# Altium integrated library CAP-CSGP_rev15b.intlib: 820 symbols (part 6 of 9)
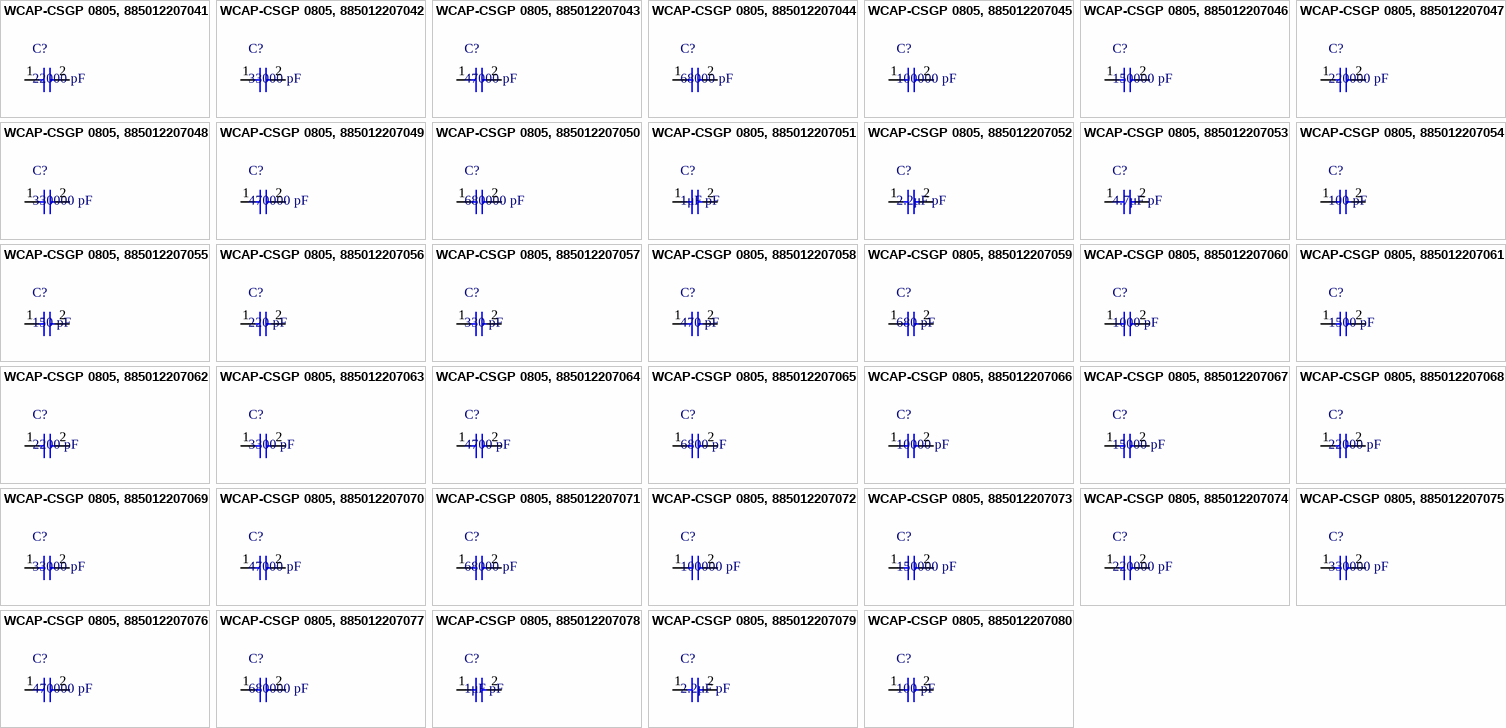
[diagram p33: symbols WCAP-CSGP 0805, 885012207041 to WCAP-CSGP 0805, 885012207080]

## WCAP-CSGP 0805, 885012207072
designator C?, comment 100000 pF
WCAP-CSGP MLCC, X7R, 0805, 100000 pF,25Vdc; Manufacturer: Wurth Elektronik; partNo: 885012207072; E-mail: libraries@we-online.com; ComponentLink1Description: Manufacturer; ComponentLink1URL: http://www.we-online.com; ComponentLink2Description: Datasheet; ComponentLink2URL: http://katalog.we-online.de/pbs/datasheet/885012207072.pdf; Created by: Karrer Zheng; Created Date: 3/9/2015; Capacitance: 100000 pF
footprint WCAP-CSGP 0805, H=0.8mm
pins: 1, 2

## WCAP-CSGP 0805, 885012207073
designator C?, comment 150000 pF
WCAP-CSGP MLCC, X7R, 0805, 150000 pF,25Vdc; Manufacturer: Wurth Elektronik; partNo: 885012207073; E-mail: libraries@we-online.com; ComponentLink1Description: Manufacturer; ComponentLink1URL: http://www.we-online.com; ComponentLink2Description: Datasheet; ComponentLink2URL: http://katalog.we-online.de/pbs/datasheet/885012207073.pdf; Created by: Karrer Zheng; Created Date: 3/9/2015; Capacitance: 150000 pF
footprint WCAP-CSGP 0805, H=1.25mm
pins: 1, 2

## WCAP-CSGP 0805, 885012207074
designator C?, comment 220000 pF
WCAP-CSGP MLCC, X7R, 0805, 220000 pF,25Vdc; Manufacturer: Wurth Elektronik; partNo: 885012207074; E-mail: libraries@we-online.com; ComponentLink1Description: Manufacturer; ComponentLink1URL: http://www.we-online.com; ComponentLink2Description: Datasheet; ComponentLink2URL: http://katalog.we-online.de/pbs/datasheet/885012207074.pdf; Created by: Karrer Zheng; Created Date: 3/9/2015; Capacitance: 220000 pF
footprint WCAP-CSGP 0805, H=1.25mm
pins: 1, 2

## WCAP-CSGP 0805, 885012207075
designator C?, comment 330000 pF
WCAP-CSGP MLCC, X7R, 0805, 330000 pF,25Vdc; Manufacturer: Wurth Elektronik; partNo: 885012207075; E-mail: libraries@we-online.com; ComponentLink1Description: Manufacturer; ComponentLink1URL: http://www.we-online.com; ComponentLink2Description: Datasheet; ComponentLink2URL: http://katalog.we-online.de/pbs/datasheet/885012207075.pdf; Created by: Karrer Zheng; Created Date: 3/9/2015; Capacitance: 330000 pF
footprint WCAP-CSGP 0805, H=1.25mm
pins: 1, 2

## WCAP-CSGP 0805, 885012207076
designator C?, comment 470000 pF
WCAP-CSGP MLCC, X7R, 0805, 470000 pF,25Vdc; Manufacturer: Wurth Elektronik; partNo: 885012207076; E-mail: libraries@we-online.com; ComponentLink1Description: Manufacturer; ComponentLink1URL: http://www.we-online.com; ComponentLink2Description: Datasheet; ComponentLink2URL: http://katalog.we-online.de/pbs/datasheet/885012207076.pdf; Created by: Karrer Zheng; Created Date: 3/9/2015; Capacitance: 470000 pF
footprint WCAP-CSGP 0805, H=1.25mm
pins: 1, 2

## WCAP-CSGP 0805, 885012207077
designator C?, comment 680000 pF
WCAP-CSGP MLCC, X7R, 0805, 680000 pF,25Vdc; Manufacturer: Wurth Elektronik; partNo: 885012207077; E-mail: libraries@we-online.com; ComponentLink1Description: Manufacturer; ComponentLink1URL: http://www.we-online.com; ComponentLink2Description: Datasheet; ComponentLink2URL: http://katalog.we-online.de/pbs/datasheet/885012207077.pdf; Created by: Karrer Zheng; Created Date: 3/9/2015; Capacitance: 680000 pF
footprint WCAP-CSGP 0805, H=1.25mm
pins: 1, 2

## WCAP-CSGP 0805, 885012207078
designator C?, comment 1μF pF
WCAP-CSGP MLCC, X7R, 0805, 1μF pF,25Vdc; Manufacturer: Wurth Elektronik; partNo: 885012207078; E-mail: libraries@we-online.com; ComponentLink1Description: Manufacturer; ComponentLink1URL: http://www.we-online.com; ComponentLink2Description: Datasheet; ComponentLink2URL: http://katalog.we-online.de/pbs/datasheet/885012207078.pdf; Created by: Karrer Zheng; Created Date: 3/9/2015; Capacitance: 1μF pF
footprint WCAP-CSGP 0805, H=1.25mm
pins: 1, 2

## WCAP-CSGP 0805, 885012207079
designator C?, comment 2.2μF pF
WCAP-CSGP MLCC, X7R, 0805, 2.2μF pF,25Vdc; Manufacturer: Wurth Elektronik; partNo: 885012207079; E-mail: libraries@we-online.com; ComponentLink1Description: Manufacturer; ComponentLink1URL: http://www.we-online.com; ComponentLink2Description: Datasheet; ComponentLink2URL: http://katalog.we-online.de/pbs/datasheet/885012207079.pdf; Created by: Karrer Zheng; Created Date: 3/9/2015; Capacitance: 2.2μF pF
footprint WCAP-CSGP 0805, H=1.25mm
pins: 1, 2

## WCAP-CSGP 0805, 885012207080
designator C?, comment 100 pF
WCAP-CSGP MLCC, X7R, 0805, 100 pF,50Vdc; Manufacturer: Wurth Elektronik; partNo: 885012207080; E-mail: libraries@we-online.com; ComponentLink1Description: Manufacturer; ComponentLink1URL: http://www.we-online.com; ComponentLink2Description: Datasheet; ComponentLink2URL: http://katalog.we-online.de/pbs/datasheet/885012207080.pdf; Created by: Karrer Zheng; Created Date: 3/9/2015; Capacitance: 100 pF
footprint WCAP-CSGP 0805, H=0.8mm
pins: 1, 2

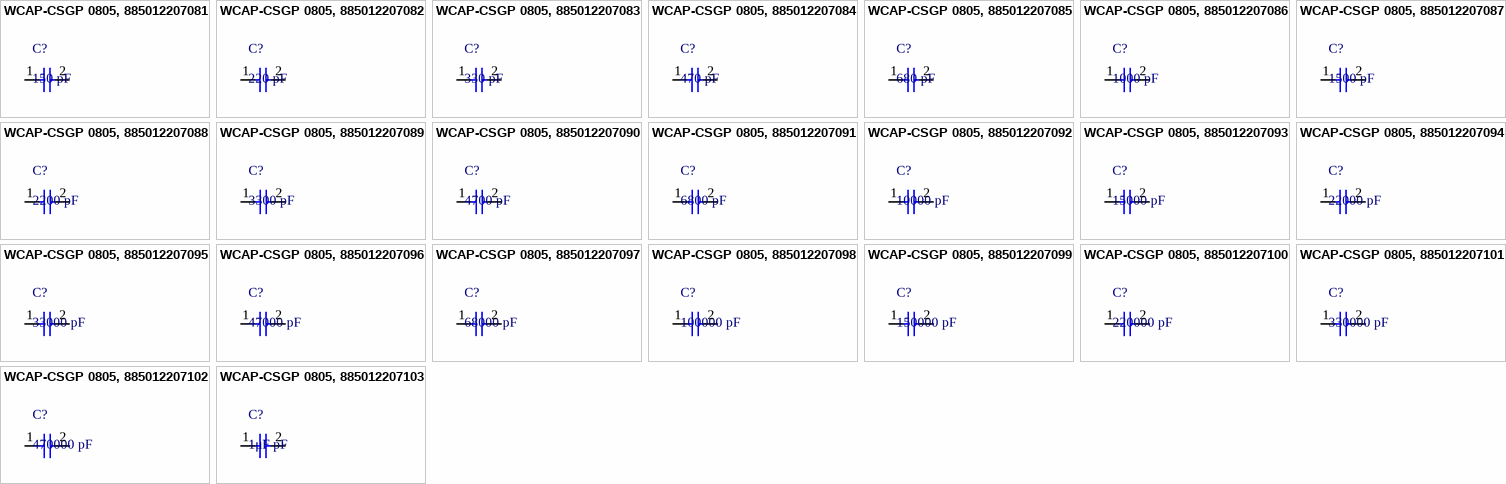
[diagram p16: symbols WCAP-CSGP 0805, 885012207081 to WCAP-CSGP 0805, 885012207103]

## WCAP-CSGP 0805, 885012207081
designator C?, comment 150 pF
WCAP-CSGP MLCC, X7R, 0805, 150 pF,50Vdc; Manufacturer: Wurth Elektronik; partNo: 885012207081; E-mail: libraries@we-online.com; ComponentLink1Description: Manufacturer; ComponentLink1URL: http://www.we-online.com; ComponentLink2Description: Datasheet; ComponentLink2URL: http://katalog.we-online.de/pbs/datasheet/885012207081.pdf; Created by: Karrer Zheng; Created Date: 3/9/2015; Capacitance: 150 pF
footprint WCAP-CSGP 0805, H=0.8mm
pins: 1, 2

## WCAP-CSGP 0805, 885012207082
designator C?, comment 220 pF
WCAP-CSGP MLCC, X7R, 0805, 220 pF,50Vdc; Manufacturer: Wurth Elektronik; partNo: 885012207082; E-mail: libraries@we-online.com; ComponentLink1Description: Manufacturer; ComponentLink1URL: http://www.we-online.com; ComponentLink2Description: Datasheet; ComponentLink2URL: http://katalog.we-online.de/pbs/datasheet/885012207082.pdf; Created by: Karrer Zheng; Created Date: 3/9/2015; Capacitance: 220 pF
footprint WCAP-CSGP 0805, H=0.8mm
pins: 1, 2

## WCAP-CSGP 0805, 885012207083
designator C?, comment 330 pF
WCAP-CSGP MLCC, X7R, 0805, 330 pF,50Vdc; Manufacturer: Wurth Elektronik; partNo: 885012207083; E-mail: libraries@we-online.com; ComponentLink1Description: Manufacturer; ComponentLink1URL: http://www.we-online.com; ComponentLink2Description: Datasheet; ComponentLink2URL: http://katalog.we-online.de/pbs/datasheet/885012207083.pdf; Created by: Karrer Zheng; Created Date: 3/9/2015; Capacitance: 330 pF
footprint WCAP-CSGP 0805, H=0.8mm
pins: 1, 2

## WCAP-CSGP 0805, 885012207084
designator C?, comment 470 pF
WCAP-CSGP MLCC, X7R, 0805, 470 pF,50Vdc; Manufacturer: Wurth Elektronik; partNo: 885012207084; E-mail: libraries@we-online.com; ComponentLink1Description: Manufacturer; ComponentLink1URL: http://www.we-online.com; ComponentLink2Description: Datasheet; ComponentLink2URL: http://katalog.we-online.de/pbs/datasheet/885012207084.pdf; Created by: Karrer Zheng; Created Date: 3/9/2015; Capacitance: 470 pF
footprint WCAP-CSGP 0805, H=0.8mm
pins: 1, 2

## WCAP-CSGP 0805, 885012207085
designator C?, comment 680 pF
WCAP-CSGP MLCC, X7R, 0805, 680 pF,50Vdc; Manufacturer: Wurth Elektronik; partNo: 885012207085; E-mail: libraries@we-online.com; ComponentLink1Description: Manufacturer; ComponentLink1URL: http://www.we-online.com; ComponentLink2Description: Datasheet; ComponentLink2URL: http://katalog.we-online.de/pbs/datasheet/885012207085.pdf; Created by: Karrer Zheng; Created Date: 3/9/2015; Capacitance: 680 pF
footprint WCAP-CSGP 0805, H=0.8mm
pins: 1, 2

## WCAP-CSGP 0805, 885012207086
designator C?, comment 1000 pF
WCAP-CSGP MLCC, X7R, 0805, 1000 pF,50Vdc; Manufacturer: Wurth Elektronik; partNo: 885012207086; E-mail: libraries@we-online.com; ComponentLink1Description: Manufacturer; ComponentLink1URL: http://www.we-online.com; ComponentLink2Description: Datasheet; ComponentLink2URL: http://katalog.we-online.de/pbs/datasheet/885012207086.pdf; Created by: Karrer Zheng; Created Date: 3/9/2015; Capacitance: 1000 pF
footprint WCAP-CSGP 0805, H=0.8mm
pins: 1, 2

## WCAP-CSGP 0805, 885012207087
designator C?, comment 1500 pF
WCAP-CSGP MLCC, X7R, 0805, 1500 pF,50Vdc; Manufacturer: Wurth Elektronik; partNo: 885012207087; E-mail: libraries@we-online.com; ComponentLink1Description: Manufacturer; ComponentLink1URL: http://www.we-online.com; ComponentLink2Description: Datasheet; ComponentLink2URL: http://katalog.we-online.de/pbs/datasheet/885012207087.pdf; Created by: Karrer Zheng; Created Date: 3/9/2015; Capacitance: 1500 pF
footprint WCAP-CSGP 0805, H=0.8mm
pins: 1, 2

## WCAP-CSGP 0805, 885012207088
designator C?, comment 2200 pF
WCAP-CSGP MLCC, X7R, 0805, 2200 pF,50Vdc; Manufacturer: Wurth Elektronik; partNo: 885012207088; E-mail: libraries@we-online.com; ComponentLink1Description: Manufacturer; ComponentLink1URL: http://www.we-online.com; ComponentLink2Description: Datasheet; ComponentLink2URL: http://katalog.we-online.de/pbs/datasheet/885012207088.pdf; Created by: Karrer Zheng; Created Date: 3/9/2015; Capacitance: 2200 pF
footprint WCAP-CSGP 0805, H=0.8mm
pins: 1, 2

## WCAP-CSGP 0805, 885012207089
designator C?, comment 3300 pF
WCAP-CSGP MLCC, X7R, 0805, 3300 pF,50Vdc; Manufacturer: Wurth Elektronik; partNo: 885012207089; E-mail: libraries@we-online.com; ComponentLink1Description: Manufacturer; ComponentLink1URL: http://www.we-online.com; ComponentLink2Description: Datasheet; ComponentLink2URL: http://katalog.we-online.de/pbs/datasheet/885012207089.pdf; Created by: Karrer Zheng; Created Date: 3/9/2015; Capacitance: 3300 pF
footprint WCAP-CSGP 0805, H=0.8mm
pins: 1, 2

## WCAP-CSGP 0805, 885012207090
designator C?, comment 4700 pF
WCAP-CSGP MLCC, X7R, 0805, 4700 pF,50Vdc; Manufacturer: Wurth Elektronik; partNo: 885012207090; E-mail: libraries@we-online.com; ComponentLink1Description: Manufacturer; ComponentLink1URL: http://www.we-online.com; ComponentLink2Description: Datasheet; ComponentLink2URL: http://katalog.we-online.de/pbs/datasheet/885012207090.pdf; Created by: Karrer Zheng; Created Date: 3/9/2015; Capacitance: 4700 pF
footprint WCAP-CSGP 0805, H=0.8mm
pins: 1, 2

## WCAP-CSGP 0805, 885012207091
designator C?, comment 6800 pF
WCAP-CSGP MLCC, X7R, 0805, 6800 pF,50Vdc; Manufacturer: Wurth Elektronik; partNo: 885012207091; E-mail: libraries@we-online.com; ComponentLink1Description: Manufacturer; ComponentLink1URL: http://www.we-online.com; ComponentLink2Description: Datasheet; ComponentLink2URL: http://katalog.we-online.de/pbs/datasheet/885012207091.pdf; Created by: Karrer Zheng; Created Date: 3/9/2015; Capacitance: 6800 pF
footprint WCAP-CSGP 0805, H=0.8mm
pins: 1, 2

## WCAP-CSGP 0805, 885012207092
designator C?, comment 10000 pF
WCAP-CSGP MLCC, X7R, 0805, 10000 pF,50Vdc; Manufacturer: Wurth Elektronik; partNo: 885012207092; E-mail: libraries@we-online.com; ComponentLink1Description: Manufacturer; ComponentLink1URL: http://www.we-online.com; ComponentLink2Description: Datasheet; ComponentLink2URL: http://katalog.we-online.de/pbs/datasheet/885012207092.pdf; Created by: Karrer Zheng; Created Date: 3/9/2015; Capacitance: 10000 pF
footprint WCAP-CSGP 0805, H=0.8mm
pins: 1, 2

## WCAP-CSGP 0805, 885012207093
designator C?, comment 15000 pF
WCAP-CSGP MLCC, X7R, 0805, 15000 pF,50Vdc; Manufacturer: Wurth Elektronik; partNo: 885012207093; E-mail: libraries@we-online.com; ComponentLink1Description: Manufacturer; ComponentLink1URL: http://www.we-online.com; ComponentLink2Description: Datasheet; ComponentLink2URL: http://katalog.we-online.de/pbs/datasheet/885012207093.pdf; Created by: Karrer Zheng; Created Date: 3/9/2015; Capacitance: 15000 pF
footprint WCAP-CSGP 0805, H=0.8mm
pins: 1, 2

## WCAP-CSGP 0805, 885012207094
designator C?, comment 22000 pF
WCAP-CSGP MLCC, X7R, 0805, 22000 pF,50Vdc; Manufacturer: Wurth Elektronik; partNo: 885012207094; E-mail: libraries@we-online.com; ComponentLink1Description: Manufacturer; ComponentLink1URL: http://www.we-online.com; ComponentLink2Description: Datasheet; ComponentLink2URL: http://katalog.we-online.de/pbs/datasheet/885012207094.pdf; Created by: Karrer Zheng; Created Date: 3/9/2015; Capacitance: 22000 pF
footprint WCAP-CSGP 0805, H=0.8mm
pins: 1, 2

## WCAP-CSGP 0805, 885012207095
designator C?, comment 33000 pF
WCAP-CSGP MLCC, X7R, 0805, 33000 pF,50Vdc; Manufacturer: Wurth Elektronik; partNo: 885012207095; E-mail: libraries@we-online.com; ComponentLink1Description: Manufacturer; ComponentLink1URL: http://www.we-online.com; ComponentLink2Description: Datasheet; ComponentLink2URL: http://katalog.we-online.de/pbs/datasheet/885012207095.pdf; Created by: Karrer Zheng; Created Date: 3/9/2015; Capacitance: 33000 pF
footprint WCAP-CSGP 0805, H=0.8mm
pins: 1, 2

## WCAP-CSGP 0805, 885012207096
designator C?, comment 47000 pF
WCAP-CSGP MLCC, X7R, 0805, 47000 pF,50Vdc; Manufacturer: Wurth Elektronik; partNo: 885012207096; E-mail: libraries@we-online.com; ComponentLink1Description: Manufacturer; ComponentLink1URL: http://www.we-online.com; ComponentLink2Description: Datasheet; ComponentLink2URL: http://katalog.we-online.de/pbs/datasheet/885012207096.pdf; Created by: Karrer Zheng; Created Date: 3/9/2015; Capacitance: 47000 pF
footprint WCAP-CSGP 0805, H=0.8mm
pins: 1, 2

## WCAP-CSGP 0805, 885012207097
designator C?, comment 68000 pF
WCAP-CSGP MLCC, X7R, 0805, 68000 pF,50Vdc; Manufacturer: Wurth Elektronik; partNo: 885012207097; E-mail: libraries@we-online.com; ComponentLink1Description: Manufacturer; ComponentLink1URL: http://www.we-online.com; ComponentLink2Description: Datasheet; ComponentLink2URL: http://katalog.we-online.de/pbs/datasheet/885012207097.pdf; Created by: Karrer Zheng; Created Date: 3/9/2015; Capacitance: 68000 pF
footprint WCAP-CSGP 0805, H=0.8mm
pins: 1, 2

## WCAP-CSGP 0805, 885012207098
designator C?, comment 100000 pF
WCAP-CSGP MLCC, X7R, 0805, 100000 pF,50Vdc; Manufacturer: Wurth Elektronik; partNo: 885012207098; E-mail: libraries@we-online.com; ComponentLink1Description: Manufacturer; ComponentLink1URL: http://www.we-online.com; ComponentLink2Description: Datasheet; ComponentLink2URL: http://katalog.we-online.de/pbs/datasheet/885012207098.pdf; Created by: Karrer Zheng; Created Date: 3/9/2015; Capacitance: 100000 pF
footprint WCAP-CSGP 0805, H=0.8mm
pins: 1, 2

## WCAP-CSGP 0805, 885012207099
designator C?, comment 150000 pF
WCAP-CSGP MLCC, X7R, 0805, 150000 pF,50Vdc; Manufacturer: Wurth Elektronik; partNo: 885012207099; E-mail: libraries@we-online.com; ComponentLink1Description: Manufacturer; ComponentLink1URL: http://www.we-online.com; ComponentLink2Description: Datasheet; ComponentLink2URL: http://katalog.we-online.de/pbs/datasheet/885012207099.pdf; Created by: Karrer Zheng; Created Date: 3/9/2015; Capacitance: 150000 pF
footprint WCAP-CSGP 0805, H=1.25mm
pins: 1, 2

## WCAP-CSGP 0805, 885012207100
designator C?, comment 220000 pF
WCAP-CSGP MLCC, X7R, 0805, 220000 pF,50Vdc; Manufacturer: Wurth Elektronik; partNo: 885012207100; E-mail: libraries@we-online.com; ComponentLink1Description: Manufacturer; ComponentLink1URL: http://www.we-online.com; ComponentLink2Description: Datasheet; ComponentLink2URL: http://katalog.we-online.de/pbs/datasheet/885012207100.pdf; Created by: Karrer Zheng; Created Date: 3/9/2015; Capacitance: 220000 pF
footprint WCAP-CSGP 0805, H=1.25mm
pins: 1, 2

## WCAP-CSGP 0805, 885012207101
designator C?, comment 330000 pF
WCAP-CSGP MLCC, X7R, 0805, 330000 pF,50Vdc; Manufacturer: Wurth Elektronik; partNo: 885012207101; E-mail: libraries@we-online.com; ComponentLink1Description: Manufacturer; ComponentLink1URL: http://www.we-online.com; ComponentLink2Description: Datasheet; ComponentLink2URL: http://katalog.we-online.de/pbs/datasheet/885012207101.pdf; Created by: Karrer Zheng; Created Date: 3/9/2015; Capacitance: 330000 pF
footprint WCAP-CSGP 0805, H=1.25mm
pins: 1, 2

## WCAP-CSGP 0805, 885012207102
designator C?, comment 470000 pF
WCAP-CSGP MLCC, X7R, 0805, 470000 pF,50Vdc; Manufacturer: Wurth Elektronik; partNo: 885012207102; E-mail: libraries@we-online.com; ComponentLink1Description: Manufacturer; ComponentLink1URL: http://www.we-online.com; ComponentLink2Description: Datasheet; ComponentLink2URL: http://katalog.we-online.de/pbs/datasheet/885012207102.pdf; Created by: Karrer Zheng; Created Date: 3/9/2015; Capacitance: 470000 pF
footprint WCAP-CSGP 0805, H=1.25mm
pins: 1, 2

## WCAP-CSGP 0805, 885012207103
designator C?, comment 1μF pF
WCAP-CSGP MLCC, X7R, 0805, 1μF pF,50Vdc; Manufacturer: Wurth Elektronik; partNo: 885012207103; E-mail: libraries@we-online.com; ComponentLink1Description: Manufacturer; ComponentLink1URL: http://www.we-online.com; ComponentLink2Description: Datasheet; ComponentLink2URL: http://katalog.we-online.de/pbs/datasheet/885012207103.pdf; Created by: Karrer Zheng; Created Date: 3/9/2015; Capacitance: 1μF pF
footprint WCAP-CSGP 0805, H=1.25mm
pins: 1, 2


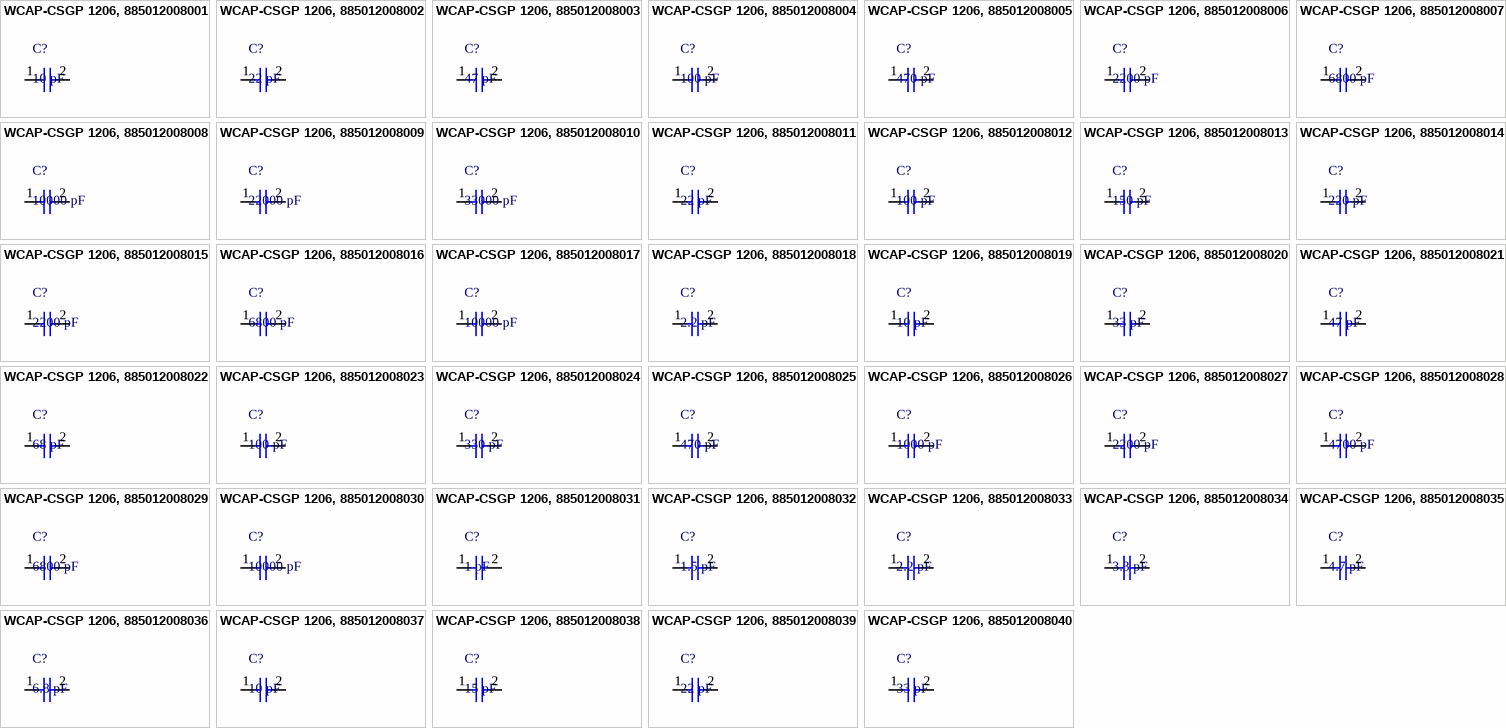
[diagram p17: symbols WCAP-CSGP 1206, 885012008001 to WCAP-CSGP 1206, 885012008040]

## WCAP-CSGP 1206, 885012008001
designator C?, comment 10 pF
WCAP-CSGP MLCC, NP0, 1206, 10 pF,10Vdc; Manufacturer: Wurth Elektronik; partNo: 885012008001; E-mail: libraries@we-online.com; ComponentLink1Description: Manufacturer; ComponentLink1URL: http://www.we-online.com; ComponentLink2Description: Datasheet; ComponentLink2URL: http://katalog.we-online.de/pbs/datasheet/885012008001.pdf; Created by: Karrer Zheng; Created Date: 3/9/2015; Capacitance: 10 pF
footprint WCAP-CSGP 1206, H=0.8mm
pins: 1, 2

## WCAP-CSGP 1206, 885012008002
designator C?, comment 22 pF
WCAP-CSGP MLCC, NP0, 1206, 22 pF,10Vdc; Manufacturer: Wurth Elektronik; partNo: 885012008002; E-mail: libraries@we-online.com; ComponentLink1Description: Manufacturer; ComponentLink1URL: http://www.we-online.com; ComponentLink2Description: Datasheet; ComponentLink2URL: http://katalog.we-online.de/pbs/datasheet/885012008002.pdf; Created by: Karrer Zheng; Created Date: 3/9/2015; Capacitance: 22 pF
footprint WCAP-CSGP 1206, H=0.8mm
pins: 1, 2

## WCAP-CSGP 1206, 885012008003
designator C?, comment 47 pF
WCAP-CSGP MLCC, NP0, 1206, 47 pF,10Vdc; Manufacturer: Wurth Elektronik; partNo: 885012008003; E-mail: libraries@we-online.com; ComponentLink1Description: Manufacturer; ComponentLink1URL: http://www.we-online.com; ComponentLink2Description: Datasheet; ComponentLink2URL: http://katalog.we-online.de/pbs/datasheet/885012008003.pdf; Created by: Karrer Zheng; Created Date: 3/9/2015; Capacitance: 47 pF
footprint WCAP-CSGP 1206, H=0.8mm
pins: 1, 2

## WCAP-CSGP 1206, 885012008004
designator C?, comment 100 pF
WCAP-CSGP MLCC, NP0, 1206, 100 pF,10Vdc; Manufacturer: Wurth Elektronik; partNo: 885012008004; E-mail: libraries@we-online.com; ComponentLink1Description: Manufacturer; ComponentLink1URL: http://www.we-online.com; ComponentLink2Description: Datasheet; ComponentLink2URL: http://katalog.we-online.de/pbs/datasheet/885012008004.pdf; Created by: Karrer Zheng; Created Date: 3/9/2015; Capacitance: 100 pF
footprint WCAP-CSGP 1206, H=0.8mm
pins: 1, 2

## WCAP-CSGP 1206, 885012008005
designator C?, comment 470 pF
WCAP-CSGP MLCC, NP0, 1206, 470 pF,10Vdc; Manufacturer: Wurth Elektronik; partNo: 885012008005; E-mail: libraries@we-online.com; ComponentLink1Description: Manufacturer; ComponentLink1URL: http://www.we-online.com; ComponentLink2Description: Datasheet; ComponentLink2URL: http://katalog.we-online.de/pbs/datasheet/885012008005.pdf; Created by: Karrer Zheng; Created Date: 3/9/2015; Capacitance: 470 pF
footprint WCAP-CSGP 1206, H=0.8mm
pins: 1, 2

## WCAP-CSGP 1206, 885012008006
designator C?, comment 2200 pF
WCAP-CSGP MLCC, NP0, 1206, 2200 pF,10Vdc; Manufacturer: Wurth Elektronik; partNo: 885012008006; E-mail: libraries@we-online.com; ComponentLink1Description: Manufacturer; ComponentLink1URL: http://www.we-online.com; ComponentLink2Description: Datasheet; ComponentLink2URL: http://katalog.we-online.de/pbs/datasheet/885012008006.pdf; Created by: Karrer Zheng; Created Date: 3/9/2015; Capacitance: 2200 pF
footprint WCAP-CSGP 1206, H=0.8mm
pins: 1, 2

## WCAP-CSGP 1206, 885012008007
designator C?, comment 6800 pF
WCAP-CSGP MLCC, NP0, 1206, 6800 pF,10Vdc; Manufacturer: Wurth Elektronik; partNo: 885012008007; E-mail: libraries@we-online.com; ComponentLink1Description: Manufacturer; ComponentLink1URL: http://www.we-online.com; ComponentLink2Description: Datasheet; ComponentLink2URL: http://katalog.we-online.de/pbs/datasheet/885012008007.pdf; Created by: Karrer Zheng; Created Date: 3/9/2015; Capacitance: 6800 pF
footprint WCAP-CSGP 1206, H=0.95mm
pins: 1, 2

## WCAP-CSGP 1206, 885012008008
designator C?, comment 10000 pF
WCAP-CSGP MLCC, NP0, 1206, 10000 pF,10Vdc; Manufacturer: Wurth Elektronik; partNo: 885012008008; E-mail: libraries@we-online.com; ComponentLink1Description: Manufacturer; ComponentLink1URL: http://www.we-online.com; ComponentLink2Description: Datasheet; ComponentLink2URL: http://katalog.we-online.de/pbs/datasheet/885012008008.pdf; Created by: Karrer Zheng; Created Date: 3/9/2015; Capacitance: 10000 pF
footprint WCAP-CSGP 1206, H=1.25mm
pins: 1, 2

## WCAP-CSGP 1206, 885012008009
designator C?, comment 22000 pF
WCAP-CSGP MLCC, NP0, 1206, 22000 pF,10Vdc; Manufacturer: Wurth Elektronik; partNo: 885012008009; E-mail: libraries@we-online.com; ComponentLink1Description: Manufacturer; ComponentLink1URL: http://www.we-online.com; ComponentLink2Description: Datasheet; ComponentLink2URL: http://katalog.we-online.de/pbs/datasheet/885012008009.pdf; Created by: Karrer Zheng; Created Date: 3/9/2015; Capacitance: 22000 pF
footprint WCAP-CSGP 1206, H=1.25mm (MLCC 1206, H=1.25mm)
pins: 1, 2

## WCAP-CSGP 1206, 885012008010
designator C?, comment 33000 pF
WCAP-CSGP MLCC, NP0, 1206, 33000 pF,10Vdc; Manufacturer: Wurth Elektronik; partNo: 885012008010; E-mail: libraries@we-online.com; ComponentLink1Description: Manufacturer; ComponentLink1URL: http://www.we-online.com; ComponentLink2Description: Datasheet; ComponentLink2URL: http://katalog.we-online.de/pbs/datasheet/885012008010.pdf; Created by: Karrer Zheng; Created Date: 3/9/2015; Capacitance: 33000 pF
footprint WCAP-CSGP 1206, H=0.85mm
pins: 1, 2

## WCAP-CSGP 1206, 885012008011
designator C?, comment 22 pF
WCAP-CSGP MLCC, NP0, 1206, 22 pF,16Vdc; Manufacturer: Wurth Elektronik; partNo: 885012008011; E-mail: libraries@we-online.com; ComponentLink1Description: Manufacturer; ComponentLink1URL: http://www.we-online.com; ComponentLink2Description: Datasheet; ComponentLink2URL: http://katalog.we-online.de/pbs/datasheet/885012008011.pdf; Created by: Karrer Zheng; Created Date: 3/9/2015; Capacitance: 22 pF
footprint WCAP-CSGP 1206, H=0.8mm
pins: 1, 2

## WCAP-CSGP 1206, 885012008012
designator C?, comment 100 pF
WCAP-CSGP MLCC, NP0, 1206, 100 pF,16Vdc; Manufacturer: Wurth Elektronik; partNo: 885012008012; E-mail: libraries@we-online.com; ComponentLink1Description: Manufacturer; ComponentLink1URL: http://www.we-online.com; ComponentLink2Description: Datasheet; ComponentLink2URL: http://katalog.we-online.de/pbs/datasheet/885012008012.pdf; Created by: Karrer Zheng; Created Date: 3/9/2015; Capacitance: 100 pF
footprint WCAP-CSGP 1206, H=0.8mm
pins: 1, 2

## WCAP-CSGP 1206, 885012008013
designator C?, comment 150 pF
WCAP-CSGP MLCC, NP0, 1206, 150 pF,16Vdc; Manufacturer: Wurth Elektronik; partNo: 885012008013; E-mail: libraries@we-online.com; ComponentLink1Description: Manufacturer; ComponentLink1URL: http://www.we-online.com; ComponentLink2Description: Datasheet; ComponentLink2URL: http://katalog.we-online.de/pbs/datasheet/885012008013.pdf; Created by: Karrer Zheng; Created Date: 3/9/2015; Capacitance: 150 pF
footprint WCAP-CSGP 1206, H=0.8mm
pins: 1, 2

## WCAP-CSGP 1206, 885012008014
designator C?, comment 220 pF
WCAP-CSGP MLCC, NP0, 1206, 220 pF,16Vdc; Manufacturer: Wurth Elektronik; partNo: 885012008014; E-mail: libraries@we-online.com; ComponentLink1Description: Manufacturer; ComponentLink1URL: http://www.we-online.com; ComponentLink2Description: Datasheet; ComponentLink2URL: http://katalog.we-online.de/pbs/datasheet/885012008014.pdf; Created by: Karrer Zheng; Created Date: 3/9/2015; Capacitance: 220 pF
footprint WCAP-CSGP 1206, H=0.8mm
pins: 1, 2

## WCAP-CSGP 1206, 885012008015
designator C?, comment 2200 pF
WCAP-CSGP MLCC, NP0, 1206, 2200 pF,16Vdc; Manufacturer: Wurth Elektronik; partNo: 885012008015; E-mail: libraries@we-online.com; ComponentLink1Description: Manufacturer; ComponentLink1URL: http://www.we-online.com; ComponentLink2Description: Datasheet; ComponentLink2URL: http://katalog.we-online.de/pbs/datasheet/885012008015.pdf; Created by: Karrer Zheng; Created Date: 3/9/2015; Capacitance: 2200 pF
footprint WCAP-CSGP 1206, H=0.8mm
pins: 1, 2

## WCAP-CSGP 1206, 885012008016
designator C?, comment 6800 pF
WCAP-CSGP MLCC, NP0, 1206, 6800 pF,16Vdc; Manufacturer: Wurth Elektronik; partNo: 885012008016; E-mail: libraries@we-online.com; ComponentLink1Description: Manufacturer; ComponentLink1URL: http://www.we-online.com; ComponentLink2Description: Datasheet; ComponentLink2URL: http://katalog.we-online.de/pbs/datasheet/885012008016.pdf; Created by: Karrer Zheng; Created Date: 3/9/2015; Capacitance: 6800 pF
footprint WCAP-CSGP 1206, H=0.85mm
pins: 1, 2

## WCAP-CSGP 1206, 885012008017
designator C?, comment 10000 pF
WCAP-CSGP MLCC, NP0, 1206, 10000 pF,16Vdc; Manufacturer: Wurth Elektronik; partNo: 885012008017; E-mail: libraries@we-online.com; ComponentLink1Description: Manufacturer; ComponentLink1URL: http://www.we-online.com; ComponentLink2Description: Datasheet; ComponentLink2URL: http://katalog.we-online.de/pbs/datasheet/885012008017.pdf; Created by: Karrer Zheng; Created Date: 3/9/2015; Capacitance: 10000 pF
footprint WCAP-CSGP 1206, H=1.25mm
pins: 1, 2

## WCAP-CSGP 1206, 885012008018
designator C?, comment 2.2 pF
WCAP-CSGP MLCC, NP0, 1206, 2.2 pF,25Vdc; Manufacturer: Wurth Elektronik; partNo: 885012008018; E-mail: libraries@we-online.com; ComponentLink1Description: Manufacturer; ComponentLink1URL: http://www.we-online.com; ComponentLink2Description: Datasheet; ComponentLink2URL: http://katalog.we-online.de/pbs/datasheet/885012008018.pdf; Created by: Karrer Zheng; Created Date: 3/9/2015; Capacitance: 2.2 pF
footprint WCAP-CSGP 1206, H=0.8mm
pins: 1, 2

## WCAP-CSGP 1206, 885012008019
designator C?, comment 10 pF
WCAP-CSGP MLCC, NP0, 1206, 10 pF,25Vdc; Manufacturer: Wurth Elektronik; partNo: 885012008019; E-mail: libraries@we-online.com; ComponentLink1Description: Manufacturer; ComponentLink1URL: http://www.we-online.com; ComponentLink2Description: Datasheet; ComponentLink2URL: http://katalog.we-online.de/pbs/datasheet/885012008019.pdf; Created by: Karrer Zheng; Created Date: 3/9/2015; Capacitance: 10 pF
footprint WCAP-CSGP 1206, H=0.8mm
pins: 1, 2

## WCAP-CSGP 1206, 885012008020
designator C?, comment 33 pF
WCAP-CSGP MLCC, NP0, 1206, 33 pF,25Vdc; Manufacturer: Wurth Elektronik; partNo: 885012008020; E-mail: libraries@we-online.com; ComponentLink1Description: Manufacturer; ComponentLink1URL: http://www.we-online.com; ComponentLink2Description: Datasheet; ComponentLink2URL: http://katalog.we-online.de/pbs/datasheet/885012008020.pdf; Created by: Karrer Zheng; Created Date: 3/9/2015; Capacitance: 33 pF
footprint WCAP-CSGP 1206, H=0.8mm
pins: 1, 2

## WCAP-CSGP 1206, 885012008021
designator C?, comment 47 pF
WCAP-CSGP MLCC, NP0, 1206, 47 pF,25Vdc; Manufacturer: Wurth Elektronik; partNo: 885012008021; E-mail: libraries@we-online.com; ComponentLink1Description: Manufacturer; ComponentLink1URL: http://www.we-online.com; ComponentLink2Description: Datasheet; ComponentLink2URL: http://katalog.we-online.de/pbs/datasheet/885012008021.pdf; Created by: Karrer Zheng; Created Date: 3/9/2015; Capacitance: 47 pF
footprint WCAP-CSGP 1206, H=0.8mm
pins: 1, 2

## WCAP-CSGP 1206, 885012008022
designator C?, comment 68 pF
WCAP-CSGP MLCC, NP0, 1206, 68 pF,25Vdc; Manufacturer: Wurth Elektronik; partNo: 885012008022; E-mail: libraries@we-online.com; ComponentLink1Description: Manufacturer; ComponentLink1URL: http://www.we-online.com; ComponentLink2Description: Datasheet; ComponentLink2URL: http://katalog.we-online.de/pbs/datasheet/885012008022.pdf; Created by: Karrer Zheng; Created Date: 3/9/2015; Capacitance: 68 pF
footprint WCAP-CSGP 1206, H=0.8mm
pins: 1, 2

## WCAP-CSGP 1206, 885012008023
designator C?, comment 100 pF
WCAP-CSGP MLCC, NP0, 1206, 100 pF,25Vdc; Manufacturer: Wurth Elektronik; partNo: 885012008023; E-mail: libraries@we-online.com; ComponentLink1Description: Manufacturer; ComponentLink1URL: http://www.we-online.com; ComponentLink2Description: Datasheet; ComponentLink2URL: http://katalog.we-online.de/pbs/datasheet/885012008023.pdf; Created by: Karrer Zheng; Created Date: 3/9/2015; Capacitance: 100 pF
footprint WCAP-CSGP 1206, H=0.8mm
pins: 1, 2

## WCAP-CSGP 1206, 885012008024
designator C?, comment 330 pF
WCAP-CSGP MLCC, NP0, 1206, 330 pF,25Vdc; Manufacturer: Wurth Elektronik; partNo: 885012008024; E-mail: libraries@we-online.com; ComponentLink1Description: Manufacturer; ComponentLink1URL: http://www.we-online.com; ComponentLink2Description: Datasheet; ComponentLink2URL: http://katalog.we-online.de/pbs/datasheet/885012008024.pdf; Created by: Karrer Zheng; Created Date: 3/9/2015; Capacitance: 330 pF
footprint WCAP-CSGP 1206, H=0.8mm
pins: 1, 2

## WCAP-CSGP 1206, 885012008025
designator C?, comment 470 pF
WCAP-CSGP MLCC, NP0, 1206, 470 pF,25Vdc; Manufacturer: Wurth Elektronik; partNo: 885012008025; E-mail: libraries@we-online.com; ComponentLink1Description: Manufacturer; ComponentLink1URL: http://www.we-online.com; ComponentLink2Description: Datasheet; ComponentLink2URL: http://katalog.we-online.de/pbs/datasheet/885012008025.pdf; Created by: Karrer Zheng; Created Date: 3/9/2015; Capacitance: 470 pF
footprint WCAP-CSGP 1206, H=0.8mm
pins: 1, 2

## WCAP-CSGP 1206, 885012008026
designator C?, comment 1000 pF
WCAP-CSGP MLCC, NP0, 1206, 1000 pF,25Vdc; Manufacturer: Wurth Elektronik; partNo: 885012008026; E-mail: libraries@we-online.com; ComponentLink1Description: Manufacturer; ComponentLink1URL: http://www.we-online.com; ComponentLink2Description: Datasheet; ComponentLink2URL: http://katalog.we-online.de/pbs/datasheet/885012008026.pdf; Created by: Karrer Zheng; Created Date: 3/9/2015; Capacitance: 1000 pF
footprint WCAP-CSGP 1206, H=0.8mm
pins: 1, 2

## WCAP-CSGP 1206, 885012008027
designator C?, comment 2200 pF
WCAP-CSGP MLCC, NP0, 1206, 2200 pF,25Vdc; Manufacturer: Wurth Elektronik; partNo: 885012008027; E-mail: libraries@we-online.com; ComponentLink1Description: Manufacturer; ComponentLink1URL: http://www.we-online.com; ComponentLink2Description: Datasheet; ComponentLink2URL: http://katalog.we-online.de/pbs/datasheet/885012008027.pdf; Created by: Karrer Zheng; Created Date: 3/9/2015; Capacitance: 2200 pF
footprint WCAP-CSGP 1206, H=0.8mm
pins: 1, 2

## WCAP-CSGP 1206, 885012008028
designator C?, comment 4700 pF
WCAP-CSGP MLCC, NP0, 1206, 4700 pF,25Vdc; Manufacturer: Wurth Elektronik; partNo: 885012008028; E-mail: libraries@we-online.com; ComponentLink1Description: Manufacturer; ComponentLink1URL: http://www.we-online.com; ComponentLink2Description: Datasheet; ComponentLink2URL: http://katalog.we-online.de/pbs/datasheet/885012008028.pdf; Created by: Karrer Zheng; Created Date: 3/9/2015; Capacitance: 4700 pF
footprint WCAP-CSGP 1206, H=0.8mm
pins: 1, 2

## WCAP-CSGP 1206, 885012008029
designator C?, comment 6800 pF
WCAP-CSGP MLCC, NP0, 1206, 6800 pF,25Vdc; Manufacturer: Wurth Elektronik; partNo: 885012008029; E-mail: libraries@we-online.com; ComponentLink1Description: Manufacturer; ComponentLink1URL: http://www.we-online.com; ComponentLink2Description: Datasheet; ComponentLink2URL: http://katalog.we-online.de/pbs/datasheet/885012008029.pdf; Created by: Karrer Zheng; Created Date: 3/9/2015; Capacitance: 6800 pF
footprint WCAP-CSGP 1206, H=0.95mm
pins: 1, 2

## WCAP-CSGP 1206, 885012008030
designator C?, comment 10000 pF
WCAP-CSGP MLCC, NP0, 1206, 10000 pF,25Vdc; Manufacturer: Wurth Elektronik; partNo: 885012008030; E-mail: libraries@we-online.com; ComponentLink1Description: Manufacturer; ComponentLink1URL: http://www.we-online.com; ComponentLink2Description: Datasheet; ComponentLink2URL: http://katalog.we-online.de/pbs/datasheet/885012008030.pdf; Created by: Karrer Zheng; Created Date: 3/9/2015; Capacitance: 10000 pF
footprint WCAP-CSGP 1206, H=1.25mm
pins: 1, 2

## WCAP-CSGP 1206, 885012008031
designator C?, comment 1 pF
WCAP-CSGP MLCC, NP0, 1206, 1 pF,50Vdc; Manufacturer: Wurth Elektronik; partNo: 885012008031; E-mail: libraries@we-online.com; ComponentLink1Description: Manufacturer; ComponentLink1URL: http://www.we-online.com; ComponentLink2Description: Datasheet; ComponentLink2URL: http://katalog.we-online.de/pbs/datasheet/885012008031.pdf; Created by: Karrer Zheng; Created Date: 3/9/2015; Capacitance: 1 pF
footprint WCAP-CSGP 1206, H=0.8mm
pins: 1, 2

## WCAP-CSGP 1206, 885012008032
designator C?, comment 1.5 pF
WCAP-CSGP MLCC, NP0, 1206, 1.5 pF,50Vdc; Manufacturer: Wurth Elektronik; partNo: 885012008032; E-mail: libraries@we-online.com; ComponentLink1Description: Manufacturer; ComponentLink1URL: http://www.we-online.com; ComponentLink2Description: Datasheet; ComponentLink2URL: http://katalog.we-online.de/pbs/datasheet/885012008032.pdf; Created by: Karrer Zheng; Created Date: 3/9/2015; Capacitance: 1.5 pF
footprint WCAP-CSGP 1206, H=0.8mm
pins: 1, 2

## WCAP-CSGP 1206, 885012008033
designator C?, comment 2.2 pF
WCAP-CSGP MLCC, NP0, 1206, 2.2 pF,50Vdc; Manufacturer: Wurth Elektronik; partNo: 885012008033; E-mail: libraries@we-online.com; ComponentLink1Description: Manufacturer; ComponentLink1URL: http://www.we-online.com; ComponentLink2Description: Datasheet; ComponentLink2URL: http://katalog.we-online.de/pbs/datasheet/885012008033.pdf; Created by: Karrer Zheng; Created Date: 3/9/2015; Capacitance: 2.2 pF
footprint WCAP-CSGP 1206, H=0.8mm
pins: 1, 2

## WCAP-CSGP 1206, 885012008034
designator C?, comment 3.3 pF
WCAP-CSGP MLCC, NP0, 1206, 3.3 pF,50Vdc; Manufacturer: Wurth Elektronik; partNo: 885012008034; E-mail: libraries@we-online.com; ComponentLink1Description: Manufacturer; ComponentLink1URL: http://www.we-online.com; ComponentLink2Description: Datasheet; ComponentLink2URL: http://katalog.we-online.de/pbs/datasheet/885012008034.pdf; Created by: Karrer Zheng; Created Date: 3/9/2015; Capacitance: 3.3 pF
footprint WCAP-CSGP 1206, H=0.8mm
pins: 1, 2

## WCAP-CSGP 1206, 885012008035
designator C?, comment 4.7 pF
WCAP-CSGP MLCC, NP0, 1206, 4.7 pF,50Vdc; Manufacturer: Wurth Elektronik; partNo: 885012008035; E-mail: libraries@we-online.com; ComponentLink1Description: Manufacturer; ComponentLink1URL: http://www.we-online.com; ComponentLink2Description: Datasheet; ComponentLink2URL: http://katalog.we-online.de/pbs/datasheet/885012008035.pdf; Created by: Karrer Zheng; Created Date: 3/9/2015; Capacitance: 4.7 pF
footprint WCAP-CSGP 1206, H=0.8mm
pins: 1, 2

## WCAP-CSGP 1206, 885012008036
designator C?, comment 6.8 pF
WCAP-CSGP MLCC, NP0, 1206, 6.8 pF,50Vdc; Manufacturer: Wurth Elektronik; partNo: 885012008036; E-mail: libraries@we-online.com; ComponentLink1Description: Manufacturer; ComponentLink1URL: http://www.we-online.com; ComponentLink2Description: Datasheet; ComponentLink2URL: http://katalog.we-online.de/pbs/datasheet/885012008036.pdf; Created by: Karrer Zheng; Created Date: 3/9/2015; Capacitance: 6.8 pF
footprint WCAP-CSGP 1206, H=0.8mm
pins: 1, 2

## WCAP-CSGP 1206, 885012008037
designator C?, comment 10 pF
WCAP-CSGP MLCC, NP0, 1206, 10 pF,50Vdc; Manufacturer: Wurth Elektronik; partNo: 885012008037; E-mail: libraries@we-online.com; ComponentLink1Description: Manufacturer; ComponentLink1URL: http://www.we-online.com; ComponentLink2Description: Datasheet; ComponentLink2URL: http://katalog.we-online.de/pbs/datasheet/885012008037.pdf; Created by: Karrer Zheng; Created Date: 3/9/2015; Capacitance: 10 pF
footprint WCAP-CSGP 1206, H=0.8mm
pins: 1, 2

## WCAP-CSGP 1206, 885012008038
designator C?, comment 15 pF
WCAP-CSGP MLCC, NP0, 1206, 15 pF,50Vdc; Manufacturer: Wurth Elektronik; partNo: 885012008038; E-mail: libraries@we-online.com; ComponentLink1Description: Manufacturer; ComponentLink1URL: http://www.we-online.com; ComponentLink2Description: Datasheet; ComponentLink2URL: http://katalog.we-online.de/pbs/datasheet/885012008038.pdf; Created by: Karrer Zheng; Created Date: 3/9/2015; Capacitance: 15 pF
footprint WCAP-CSGP 1206, H=0.8mm
pins: 1, 2

## WCAP-CSGP 1206, 885012008039
designator C?, comment 22 pF
WCAP-CSGP MLCC, NP0, 1206, 22 pF,50Vdc; Manufacturer: Wurth Elektronik; partNo: 885012008039; E-mail: libraries@we-online.com; ComponentLink1Description: Manufacturer; ComponentLink1URL: http://www.we-online.com; ComponentLink2Description: Datasheet; ComponentLink2URL: http://katalog.we-online.de/pbs/datasheet/885012008039.pdf; Created by: Karrer Zheng; Created Date: 3/9/2015; Capacitance: 22 pF
footprint WCAP-CSGP 1206, H=0.8mm
pins: 1, 2

## WCAP-CSGP 1206, 885012008040
designator C?, comment 33 pF
WCAP-CSGP MLCC, NP0, 1206, 33 pF,50Vdc; Manufacturer: Wurth Elektronik; partNo: 885012008040; E-mail: libraries@we-online.com; ComponentLink1Description: Manufacturer; ComponentLink1URL: http://www.we-online.com; ComponentLink2Description: Datasheet; ComponentLink2URL: http://katalog.we-online.de/pbs/datasheet/885012008040.pdf; Created by: Karrer Zheng; Created Date: 3/9/2015; Capacitance: 33 pF
footprint WCAP-CSGP 1206, H=0.8mm
pins: 1, 2

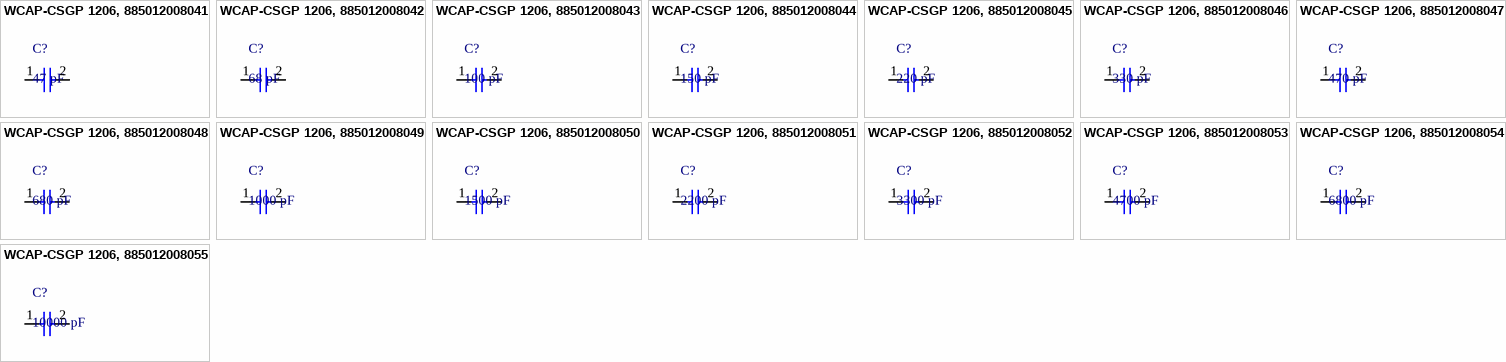
[diagram p18: symbols WCAP-CSGP 1206, 885012008041 to WCAP-CSGP 1206, 885012008055]

## WCAP-CSGP 1206, 885012008041
designator C?, comment 47 pF
WCAP-CSGP MLCC, NP0, 1206, 47 pF,50Vdc; Manufacturer: Wurth Elektronik; partNo: 885012008041; E-mail: libraries@we-online.com; ComponentLink1Description: Manufacturer; ComponentLink1URL: http://www.we-online.com; ComponentLink2Description: Datasheet; ComponentLink2URL: http://katalog.we-online.de/pbs/datasheet/885012008041.pdf; Created by: Karrer Zheng; Created Date: 3/9/2015; Capacitance: 47 pF
footprint WCAP-CSGP 1206, H=0.8mm
pins: 1, 2

## WCAP-CSGP 1206, 885012008042
designator C?, comment 68 pF
WCAP-CSGP MLCC, NP0, 1206, 68 pF,50Vdc; Manufacturer: Wurth Elektronik; partNo: 885012008042; E-mail: libraries@we-online.com; ComponentLink1Description: Manufacturer; ComponentLink1URL: http://www.we-online.com; ComponentLink2Description: Datasheet; ComponentLink2URL: http://katalog.we-online.de/pbs/datasheet/885012008042.pdf; Created by: Karrer Zheng; Created Date: 3/9/2015; Capacitance: 68 pF
footprint WCAP-CSGP 1206, H=0.8mm
pins: 1, 2

## WCAP-CSGP 1206, 885012008043
designator C?, comment 100 pF
WCAP-CSGP MLCC, NP0, 1206, 100 pF,50Vdc; Manufacturer: Wurth Elektronik; partNo: 885012008043; E-mail: libraries@we-online.com; ComponentLink1Description: Manufacturer; ComponentLink1URL: http://www.we-online.com; ComponentLink2Description: Datasheet; ComponentLink2URL: http://katalog.we-online.de/pbs/datasheet/885012008043.pdf; Created by: Karrer Zheng; Created Date: 3/9/2015; Capacitance: 100 pF
footprint WCAP-CSGP 1206, H=0.8mm
pins: 1, 2

## WCAP-CSGP 1206, 885012008044
designator C?, comment 150 pF
WCAP-CSGP MLCC, NP0, 1206, 150 pF,50Vdc; Manufacturer: Wurth Elektronik; partNo: 885012008044; E-mail: libraries@we-online.com; ComponentLink1Description: Manufacturer; ComponentLink1URL: http://www.we-online.com; ComponentLink2Description: Datasheet; ComponentLink2URL: http://katalog.we-online.de/pbs/datasheet/885012008044.pdf; Created by: Karrer Zheng; Created Date: 3/9/2015; Capacitance: 150 pF
footprint WCAP-CSGP 1206, H=0.8mm
pins: 1, 2

## WCAP-CSGP 1206, 885012008045
designator C?, comment 220 pF
WCAP-CSGP MLCC, NP0, 1206, 220 pF,50Vdc; Manufacturer: Wurth Elektronik; partNo: 885012008045; E-mail: libraries@we-online.com; ComponentLink1Description: Manufacturer; ComponentLink1URL: http://www.we-online.com; ComponentLink2Description: Datasheet; ComponentLink2URL: http://katalog.we-online.de/pbs/datasheet/885012008045.pdf; Created by: Karrer Zheng; Created Date: 3/9/2015; Capacitance: 220 pF
footprint WCAP-CSGP 1206, H=0.8mm
pins: 1, 2

## WCAP-CSGP 1206, 885012008046
designator C?, comment 330 pF
WCAP-CSGP MLCC, NP0, 1206, 330 pF,50Vdc; Manufacturer: Wurth Elektronik; partNo: 885012008046; E-mail: libraries@we-online.com; ComponentLink1Description: Manufacturer; ComponentLink1URL: http://www.we-online.com; ComponentLink2Description: Datasheet; ComponentLink2URL: http://katalog.we-online.de/pbs/datasheet/885012008046.pdf; Created by: Karrer Zheng; Created Date: 3/9/2015; Capacitance: 330 pF
footprint WCAP-CSGP 1206, H=0.8mm
pins: 1, 2

## WCAP-CSGP 1206, 885012008047
designator C?, comment 470 pF
WCAP-CSGP MLCC, NP0, 1206, 470 pF,50Vdc; Manufacturer: Wurth Elektronik; partNo: 885012008047; E-mail: libraries@we-online.com; ComponentLink1Description: Manufacturer; ComponentLink1URL: http://www.we-online.com; ComponentLink2Description: Datasheet; ComponentLink2URL: http://katalog.we-online.de/pbs/datasheet/885012008047.pdf; Created by: Karrer Zheng; Created Date: 3/9/2015; Capacitance: 470 pF
footprint WCAP-CSGP 1206, H=0.8mm
pins: 1, 2

## WCAP-CSGP 1206, 885012008048
designator C?, comment 680 pF
WCAP-CSGP MLCC, NP0, 1206, 680 pF,50Vdc; Manufacturer: Wurth Elektronik; partNo: 885012008048; E-mail: libraries@we-online.com; ComponentLink1Description: Manufacturer; ComponentLink1URL: http://www.we-online.com; ComponentLink2Description: Datasheet; ComponentLink2URL: http://katalog.we-online.de/pbs/datasheet/885012008048.pdf; Created by: Karrer Zheng; Created Date: 3/9/2015; Capacitance: 680 pF
footprint WCAP-CSGP 1206, H=0.8mm
pins: 1, 2

## WCAP-CSGP 1206, 885012008049
designator C?, comment 1000 pF
WCAP-CSGP MLCC, NP0, 1206, 1000 pF,50Vdc; Manufacturer: Wurth Elektronik; partNo: 885012008049; E-mail: libraries@we-online.com; ComponentLink1Description: Manufacturer; ComponentLink1URL: http://www.we-online.com; ComponentLink2Description: Datasheet; ComponentLink2URL: http://katalog.we-online.de/pbs/datasheet/885012008049.pdf; Created by: Karrer Zheng; Created Date: 3/9/2015; Capacitance: 1000 pF
footprint WCAP-CSGP 1206, H=0.8mm
pins: 1, 2

## WCAP-CSGP 1206, 885012008050
designator C?, comment 1500 pF
WCAP-CSGP MLCC, NP0, 1206, 1500 pF,50Vdc; Manufacturer: Wurth Elektronik; partNo: 885012008050; E-mail: libraries@we-online.com; ComponentLink1Description: Manufacturer; ComponentLink1URL: http://www.we-online.com; ComponentLink2Description: Datasheet; ComponentLink2URL: http://katalog.we-online.de/pbs/datasheet/885012008050.pdf; Created by: Karrer Zheng; Created Date: 3/9/2015; Capacitance: 1500 pF
footprint WCAP-CSGP 1206, H=0.8mm
pins: 1, 2

## WCAP-CSGP 1206, 885012008051
designator C?, comment 2200 pF
WCAP-CSGP MLCC, NP0, 1206, 2200 pF,50Vdc; Manufacturer: Wurth Elektronik; partNo: 885012008051; E-mail: libraries@we-online.com; ComponentLink1Description: Manufacturer; ComponentLink1URL: http://www.we-online.com; ComponentLink2Description: Datasheet; ComponentLink2URL: http://katalog.we-online.de/pbs/datasheet/885012008051.pdf; Created by: Karrer Zheng; Created Date: 3/9/2015; Capacitance: 2200 pF
footprint WCAP-CSGP 1206, H=0.8mm
pins: 1, 2

## WCAP-CSGP 1206, 885012008052
designator C?, comment 3300 pF
WCAP-CSGP MLCC, NP0, 1206, 3300 pF,50Vdc; Manufacturer: Wurth Elektronik; partNo: 885012008052; E-mail: libraries@we-online.com; ComponentLink1Description: Manufacturer; ComponentLink1URL: http://www.we-online.com; ComponentLink2Description: Datasheet; ComponentLink2URL: http://katalog.we-online.de/pbs/datasheet/885012008052.pdf; Created by: Karrer Zheng; Created Date: 3/9/2015; Capacitance: 3300 pF
footprint WCAP-CSGP 1206, H=0.8mm
pins: 1, 2

## WCAP-CSGP 1206, 885012008053
designator C?, comment 4700 pF
WCAP-CSGP MLCC, NP0, 1206, 4700 pF,50Vdc; Manufacturer: Wurth Elektronik; partNo: 885012008053; E-mail: libraries@we-online.com; ComponentLink1Description: Manufacturer; ComponentLink1URL: http://www.we-online.com; ComponentLink2Description: Datasheet; ComponentLink2URL: http://katalog.we-online.de/pbs/datasheet/885012008053.pdf; Created by: Karrer Zheng; Created Date: 3/9/2015; Capacitance: 4700 pF
footprint WCAP-CSGP 1206, H=0.8mm
pins: 1, 2

## WCAP-CSGP 1206, 885012008054
designator C?, comment 6800 pF
WCAP-CSGP MLCC, NP0, 1206, 6800 pF,50Vdc; Manufacturer: Wurth Elektronik; partNo: 885012008054; E-mail: libraries@we-online.com; ComponentLink1Description: Manufacturer; ComponentLink1URL: http://www.we-online.com; ComponentLink2Description: Datasheet; ComponentLink2URL: http://katalog.we-online.de/pbs/datasheet/885012008054.pdf; Created by: Karrer Zheng; Created Date: 3/9/2015; Capacitance: 6800 pF
footprint WCAP-CSGP 1206, H=0.95mm
pins: 1, 2

## WCAP-CSGP 1206, 885012008055
designator C?, comment 10000 pF
WCAP-CSGP MLCC, NP0, 1206, 10000 pF,50Vdc; Manufacturer: Wurth Elektronik; partNo: 885012008055; E-mail: libraries@we-online.com; ComponentLink1Description: Manufacturer; ComponentLink1URL: http://www.we-online.com; ComponentLink2Description: Datasheet; ComponentLink2URL: http://katalog.we-online.de/pbs/datasheet/885012008055.pdf; Created by: Karrer Zheng; Created Date: 3/9/2015; Capacitance: 10000 pF
footprint WCAP-CSGP 1206, H=1.25mm
pins: 1, 2


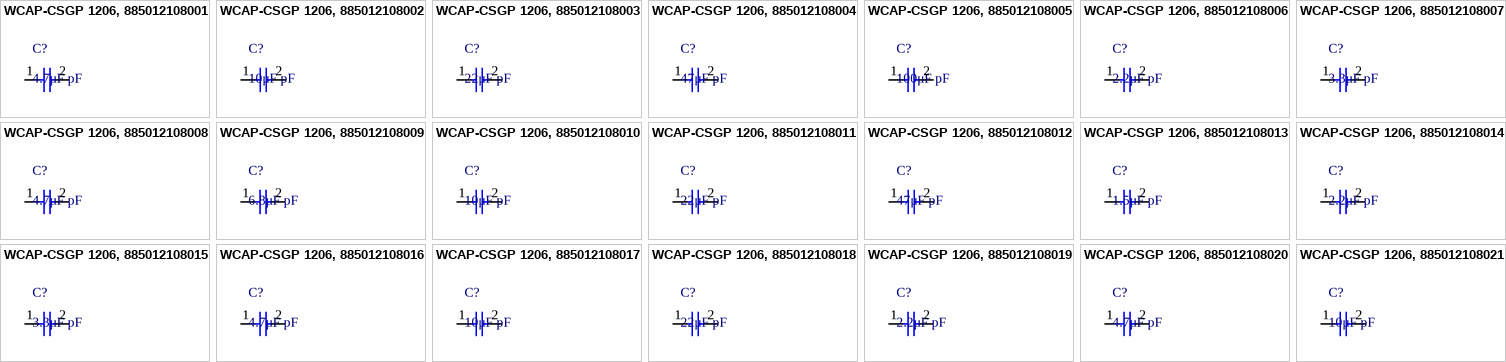
[diagram p19: symbols WCAP-CSGP 1206, 885012108001 to WCAP-CSGP 1206, 885012108021]

## WCAP-CSGP 1206, 885012108001
designator C?, comment 4.7μF pF
WCAP-CSGP MLCC, X5R, 1206, 4.7μF pF,6.3Vdc; Manufacturer: Wurth Elektronik; partNo: 885012108001; E-mail: libraries@we-online.com; ComponentLink1Description: Manufacturer; ComponentLink1URL: http://www.we-online.com; ComponentLink2Description: Datasheet; ComponentLink2URL: http://katalog.we-online.de/pbs/datasheet/885012108001.pdf; Created by: Karrer Zheng; Created Date: 3/9/2015; Capacitance: 4.7μF pF
footprint WCAP-CSGP 1206, H=1.6mm
pins: 1, 2

## WCAP-CSGP 1206, 885012108002
designator C?, comment 10μF pF
WCAP-CSGP MLCC, X5R, 1206, 10μF pF,6.3Vdc; Manufacturer: Wurth Elektronik; partNo: 885012108002; E-mail: libraries@we-online.com; ComponentLink1Description: Manufacturer; ComponentLink1URL: http://www.we-online.com; ComponentLink2Description: Datasheet; ComponentLink2URL: http://katalog.we-online.de/pbs/datasheet/885012108002.pdf; Created by: Karrer Zheng; Created Date: 3/9/2015; Capacitance: 10μF pF
footprint WCAP-CSGP 1206, H=1.6mm
pins: 1, 2

## WCAP-CSGP 1206, 885012108003
designator C?, comment 22μF pF
WCAP-CSGP MLCC, X5R, 1206, 22μF pF,6.3Vdc; Manufacturer: Wurth Elektronik; partNo: 885012108003; E-mail: libraries@we-online.com; ComponentLink1Description: Manufacturer; ComponentLink1URL: http://www.we-online.com; ComponentLink2Description: Datasheet; ComponentLink2URL: http://katalog.we-online.de/pbs/datasheet/885012108003.pdf; Created by: Karrer Zheng; Created Date: 3/9/2015; Capacitance: 22μF pF
footprint WCAP-CSGP 1206, H=1.6mm
pins: 1, 2

## WCAP-CSGP 1206, 885012108004
designator C?, comment 47μF pF
WCAP-CSGP MLCC, X5R, 1206, 47μF pF,6.3Vdc; Manufacturer: Wurth Elektronik; partNo: 885012108004; E-mail: libraries@we-online.com; ComponentLink1Description: Manufacturer; ComponentLink1URL: http://www.we-online.com; ComponentLink2Description: Datasheet; ComponentLink2URL: http://katalog.we-online.de/pbs/datasheet/885012108004.pdf; Created by: Karrer Zheng; Created Date: 3/9/2015; Capacitance: 47μF pF
footprint WCAP-CSGP 1206, H=1.6mm
pins: 1, 2

## WCAP-CSGP 1206, 885012108005
designator C?, comment 100μF pF
WCAP-CSGP MLCC, X5R, 1206, 100μF pF,6.3Vdc; Manufacturer: Wurth Elektronik; partNo: 885012108005; E-mail: libraries@we-online.com; ComponentLink1Description: Manufacturer; ComponentLink1URL: http://www.we-online.com; ComponentLink2Description: Datasheet; ComponentLink2URL: http://katalog.we-online.de/pbs/datasheet/885012108005.pdf; Created by: Karrer Zheng; Created Date: 3/9/2015; Capacitance: 100μF pF
footprint WCAP-CSGP 1206, H=1.6mm
pins: 1, 2

## WCAP-CSGP 1206, 885012108006
designator C?, comment 2.2μF pF
WCAP-CSGP MLCC, X5R, 1206, 2.2μF pF,10Vdc; Manufacturer: Wurth Elektronik; partNo: 885012108006; E-mail: libraries@we-online.com; ComponentLink1Description: Manufacturer; ComponentLink1URL: http://www.we-online.com; ComponentLink2Description: Datasheet; ComponentLink2URL: http://katalog.we-online.de/pbs/datasheet/885012108006.pdf; Created by: Karrer Zheng; Created Date: 3/9/2015; Capacitance: 2.2μF pF
footprint WCAP-CSGP 1206, H=1.15mm
pins: 1, 2

## WCAP-CSGP 1206, 885012108007
designator C?, comment 3.3μF pF
WCAP-CSGP MLCC, X5R, 1206, 3.3μF pF,10Vdc; Manufacturer: Wurth Elektronik; partNo: 885012108007; E-mail: libraries@we-online.com; ComponentLink1Description: Manufacturer; ComponentLink1URL: http://www.we-online.com; ComponentLink2Description: Datasheet; ComponentLink2URL: http://katalog.we-online.de/pbs/datasheet/885012108007.pdf; Created by: Karrer Zheng; Created Date: 3/9/2015; Capacitance: 3.3μF pF
footprint WCAP-CSGP 1206, H=1.6mm
pins: 1, 2

## WCAP-CSGP 1206, 885012108008
designator C?, comment 4.7μF pF
WCAP-CSGP MLCC, X5R, 1206, 4.7μF pF,10Vdc; Manufacturer: Wurth Elektronik; partNo: 885012108008; E-mail: libraries@we-online.com; ComponentLink1Description: Manufacturer; ComponentLink1URL: http://www.we-online.com; ComponentLink2Description: Datasheet; ComponentLink2URL: http://katalog.we-online.de/pbs/datasheet/885012108008.pdf; Created by: Karrer Zheng; Created Date: 3/9/2015; Capacitance: 4.7μF pF
footprint WCAP-CSGP 1206, H=1.6mm
pins: 1, 2

## WCAP-CSGP 1206, 885012108009
designator C?, comment 6.8μF pF
WCAP-CSGP MLCC, X5R, 1206, 6.8μF pF,10Vdc; Manufacturer: Wurth Elektronik; partNo: 885012108009; E-mail: libraries@we-online.com; ComponentLink1Description: Manufacturer; ComponentLink1URL: http://www.we-online.com; ComponentLink2Description: Datasheet; ComponentLink2URL: http://katalog.we-online.de/pbs/datasheet/885012108009.pdf; Created by: Karrer Zheng; Created Date: 3/9/2015; Capacitance: 6.8μF pF
footprint WCAP-CSGP 1206, H=1.6mm
pins: 1, 2